# Altium schematic symbol library SCH - MCU - NUVOTON - NUVOTON NANO130KD2BN.SchLib: 1 symbol
Pins are listed as number, name and electrical type; pins without a type are passive.

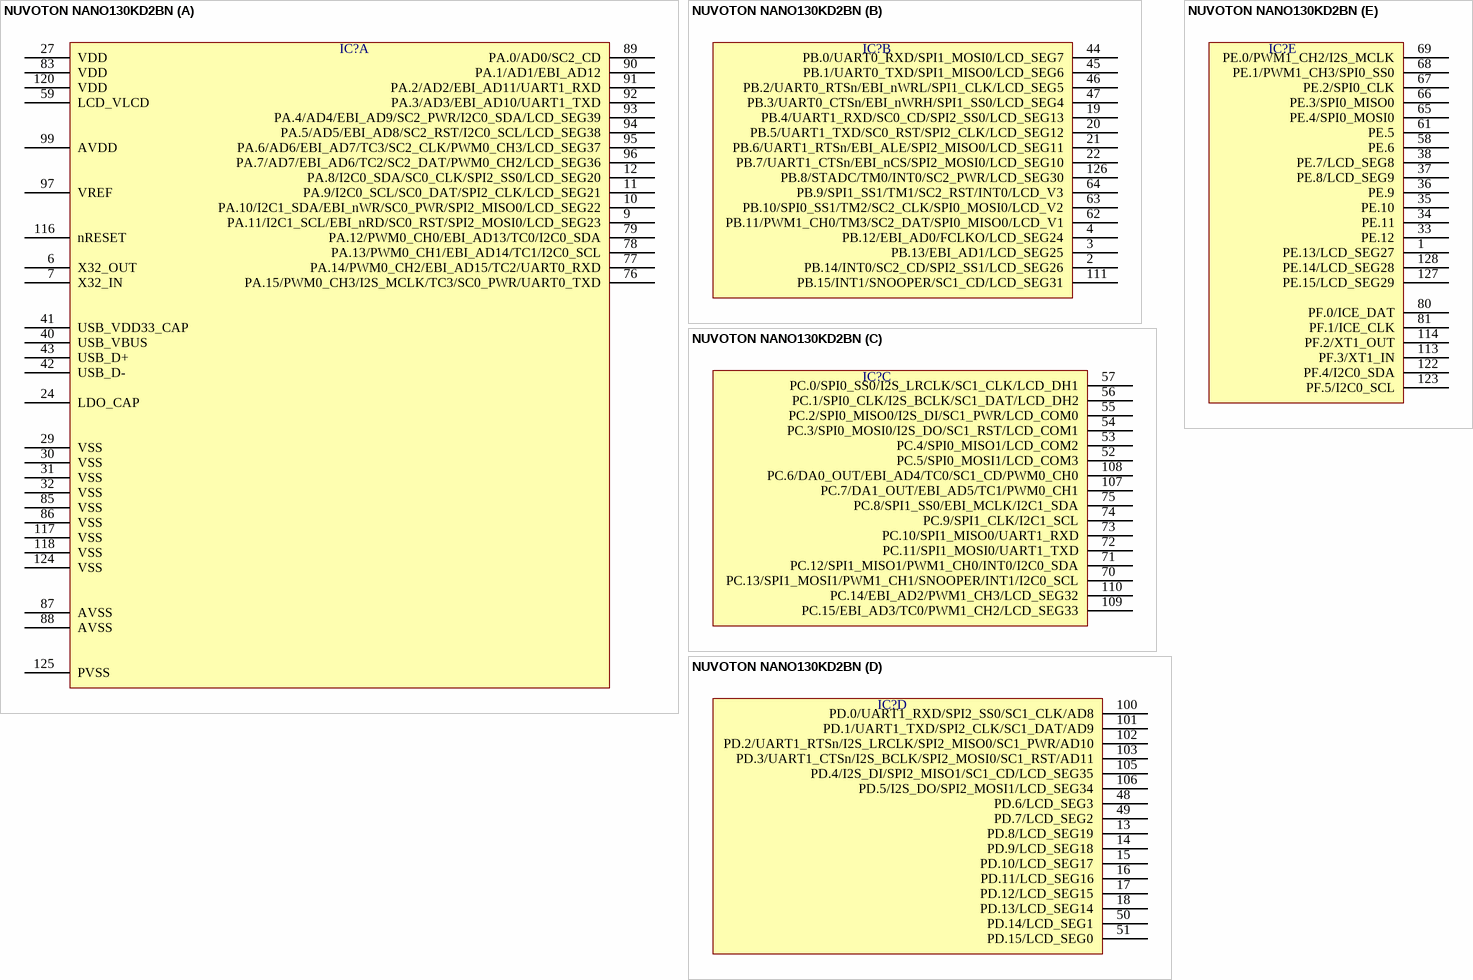
[diagram p0: symbol NUVOTON NANO130KD2BN]

## NUVOTON NANO130KD2BN
designator IC?  (value not drawn)
part A pins: 6 X32_OUT, 7 X32_IN, 9 PA.11/I2C1_SCL/EBI_nRD/SC0_RST/SPI2_MOSI0/LCD_SEG23, 10 PA.10/I2C1_SDA/EBI_nWR/SC0_PWR/SPI2_MISO0/LCD_SEG22, 11 PA.9/I2C0_SCL/SC0_DAT/SPI2_CLK/LCD_SEG21, 12 PA.8/I2C0_SDA/SC0_CLK/SPI2_SS0/LCD_SEG20, 24 LDO_CAP, 27 VDD, 29 VSS, 30 VSS, 31 VSS, 32 VSS, 40 USB_VBUS, 41 USB_VDD33_CAP, 42 USB_D-, 43 USB_D+, 59 LCD_VLCD, 76 PA.15/PWM0_CH3/I2S_MCLK/TC3/SC0_PWR/UART0_TXD, 77 PA.14/PWM0_CH2/EBI_AD15/TC2/UART0_RXD, 78 PA.13/PWM0_CH1/EBI_AD14/TC1/I2C0_SCL, 79 PA.12/PWM0_CH0/EBI_AD13/TC0/I2C0_SDA, 83 VDD, 85 VSS, 86 VSS, 87 AVSS, 88 AVSS, 89 PA.0/AD0/SC2_CD, 90 PA.1/AD1/EBI_AD12, 91 PA.2/AD2/EBI_AD11/UART1_RXD, 92 PA.3/AD3/EBI_AD10/UART1_TXD, 93 PA.4/AD4/EBI_AD9/SC2_PWR/I2C0_SDA/LCD_SEG39, 94 PA.5/AD5/EBI_AD8/SC2_RST/I2C0_SCL/LCD_SEG38, 95 PA.6/AD6/EBI_AD7/TC3/SC2_CLK/PWM0_CH3/LCD_SEG37, 96 PA.7/AD7/EBI_AD6/TC2/SC2_DAT/PWM0_CH2/LCD_SEG36, 97 VREF, 99 AVDD, 116 nRESET, 117 VSS, 118 VSS, 120 VDD, 124 VSS, 125 PVSS
part B pins: 2 PB.14/INT0/SC2_CD/SPI2_SS1/LCD_SEG26, 3 PB.13/EBI_AD1/LCD_SEG25, 4 PB.12/EBI_AD0/FCLKO/LCD_SEG24, 19 PB.4/UART1_RXD/SC0_CD/SPI2_SS0/LCD_SEG13, 20 PB.5/UART1_TXD/SC0_RST/SPI2_CLK/LCD_SEG12, 21 PB.6/UART1_RTSn/EBI_ALE/SPI2_MISO0/LCD_SEG11, 22 PB.7/UART1_CTSn/EBI_nCS/SPI2_MOSI0/LCD_SEG10, 44 PB.0/UART0_RXD/SPI1_MOSI0/LCD_SEG7, 45 PB.1/UART0_TXD/SPI1_MISO0/LCD_SEG6, 46 PB.2/UART0_RTSn/EBI_nWRL/SPI1_CLK/LCD_SEG5, 47 PB.3/UART0_CTSn/EBI_nWRH/SPI1_SS0/LCD_SEG4, 62 PB.11/PWM1_CH0/TM3/SC2_DAT/SPI0_MISO0/LCD_V1, 63 PB.10/SPI0_SS1/TM2/SC2_CLK/SPI0_MOSI0/LCD_V2, 64 PB.9/SPI1_SS1/TM1/SC2_RST/INT0/LCD_V3, 111 PB.15/INT1/SNOOPER/SC1_CD/LCD_SEG31, 126 PB.8/STADC/TM0/INT0/SC2_PWR/LCD_SEG30
part C pins: 52 PC.5/SPI0_MOSI1/LCD_COM3, 53 PC.4/SPI0_MISO1/LCD_COM2, 54 PC.3/SPI0_MOSI0/I2S_DO/SC1_RST/LCD_COM1, 55 PC.2/SPI0_MISO0/I2S_DI/SC1_PWR/LCD_COM0, 56 PC.1/SPI0_CLK/I2S_BCLK/SC1_DAT/LCD_DH2, 57 PC.0/SPI0_SS0/I2S_LRCLK/SC1_CLK/LCD_DH1, 70 PC.13/SPI1_MOSI1/PWM1_CH1/SNOOPER/INT1/I2C0_SCL, 71 PC.12/SPI1_MISO1/PWM1_CH0/INT0/I2C0_SDA, 72 PC.11/SPI1_MOSI0/UART1_TXD, 73 PC.10/SPI1_MISO0/UART1_RXD, 74 PC.9/SPI1_CLK/I2C1_SCL, 75 PC.8/SPI1_SS0/EBI_MCLK/I2C1_SDA, 107 PC.7/DA1_OUT/EBI_AD5/TC1/PWM0_CH1, 108 PC.6/DA0_OUT/EBI_AD4/TC0/SC1_CD/PWM0_CH0, 109 PC.15/EBI_AD3/TC0/PWM1_CH2/LCD_SEG33, 110 PC.14/EBI_AD2/PWM1_CH3/LCD_SEG32
part D pins: 13 PD.8/LCD_SEG19, 14 PD.9/LCD_SEG18, 15 PD.10/LCD_SEG17, 16 PD.11/LCD_SEG16, 17 PD.12/LCD_SEG15, 18 PD.13/LCD_SEG14, 48 PD.6/LCD_SEG3, 49 PD.7/LCD_SEG2, 50 PD.14/LCD_SEG1, 51 PD.15/LCD_SEG0, 100 PD.0/UART1_RXD/SPI2_SS0/SC1_CLK/AD8, 101 PD.1/UART1_TXD/SPI2_CLK/SC1_DAT/AD9, 102 PD.2/UART1_RTSn/I2S_LRCLK/SPI2_MISO0/SC1_PWR/AD10, 103 PD.3/UART1_CTSn/I2S_BCLK/SPI2_MOSI0/SC1_RST/AD11, 105 PD.4/I2S_DI/SPI2_MISO1/SC1_CD/LCD_SEG35, 106 PD.5/I2S_DO/SPI2_MOSI1/LCD_SEG34
part E pins: 1 PE.13/LCD_SEG27, 33 PE.12, 34 PE.11, 35 PE.10, 36 PE.9, 37 PE.8/LCD_SEG9, 38 PE.7/LCD_SEG8, 58 PE.6, 61 PE.5, 65 PE.4/SPI0_MOSI0, 66 PE.3/SPI0_MISO0, 67 PE.2/SPI0_CLK, 68 PE.1/PWM1_CH3/SPI0_SS0, 69 PE.0/PWM1_CH2/I2S_MCLK, 80 PF.0/ICE_DAT, 81 PF.1/ICE_CLK, 113 PF.3/XT1_IN, 114 PF.2/XT1_OUT, 122 PF.4/I2C0_SDA, 123 PF.5/I2C0_SCL, 127 PE.15/LCD_SEG29, 128 PE.14/LCD_SEG28